# EAGLE library part BQ2057WSN (library TI-BQ2057WSN)
Charge management IC
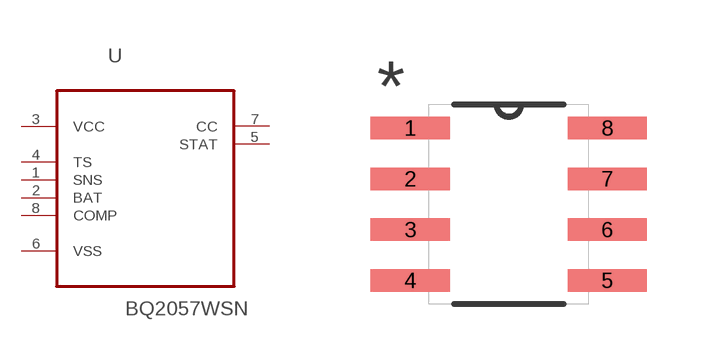
[diagram p0: symbol with the pads of SOIC127P600X175-8N; footprint SOIC127P600X175-8N]

Designator prefix U

## BQ2057WSN (MPN: BQ2057WSN; OC_FARNELL: 1212263; OC_NEWARK: 74C7600; PACKAGE: SOIC-8; SUPPLIER: Texas Instruments)  [SOIC127P600X175-8N]
1  SNS  in
2  BAT  in
3  VCC  pwr
4  TS  in
5  STAT  out
6  VSS  pwr
7  CC  out
8  COMP  in

## Footprint SOIC127P600X175-8N (pad centres in mm)
smd 1.981 x 0.559: 1 -2.464,1.905; 2 -2.464,0.635; 3 -2.464,-0.635; 4 -2.464,-1.905; 5 2.464,-1.905; 6 2.464,-0.635; 7 2.464,0.635; 8 2.464,1.905